# EAGLE library part 5-2301994-4 (library fillament-winder)
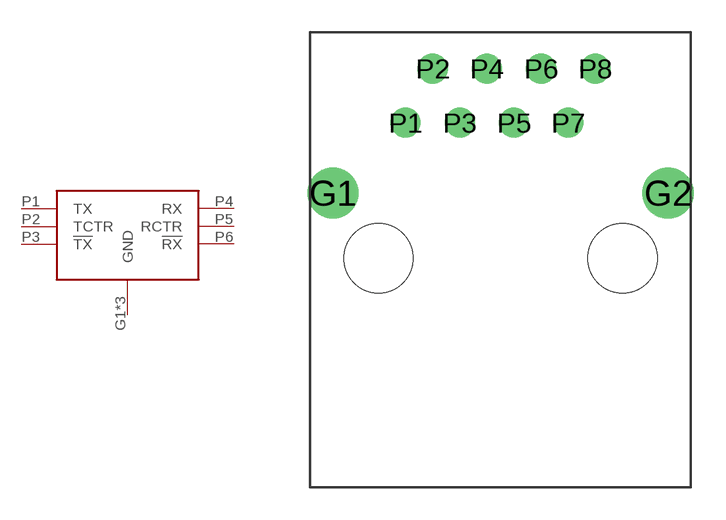
[diagram p10: symbol with the pads of 5-2301994-4; footprint 5-2301994-4]

Designator prefix P

## 5-2301994-4  [5-2301994-4]
G1  GND  pas
G2  GND  pas
P1  TX
P2  TCTR  in
P3  !TX
P4  RX
P5  RCTR  in
P6  !RX
P8  GND  pas

## Footprint 5-2301994-4 (pad centres in mm)
drill 1.6: G1 -7.85,-4.57; G2 7.85,-4.57
drill 0.9: P1 -4.445,-1.27; P2 -3.175,1.27; P3 -1.905,-1.27; P4 -0.635,1.27; P5 0.635,-1.27; P6 1.905,1.27; P7 3.175,-1.27; P8 4.445,1.27
hole 3.25 at -5.715,-7.62
hole 3.25 at 5.715,-7.62